# Altium schematic symbol library kmilo17pet-LT_OpAmp_LT2000.SchLib: 1710 symbols (part 50 of 75)
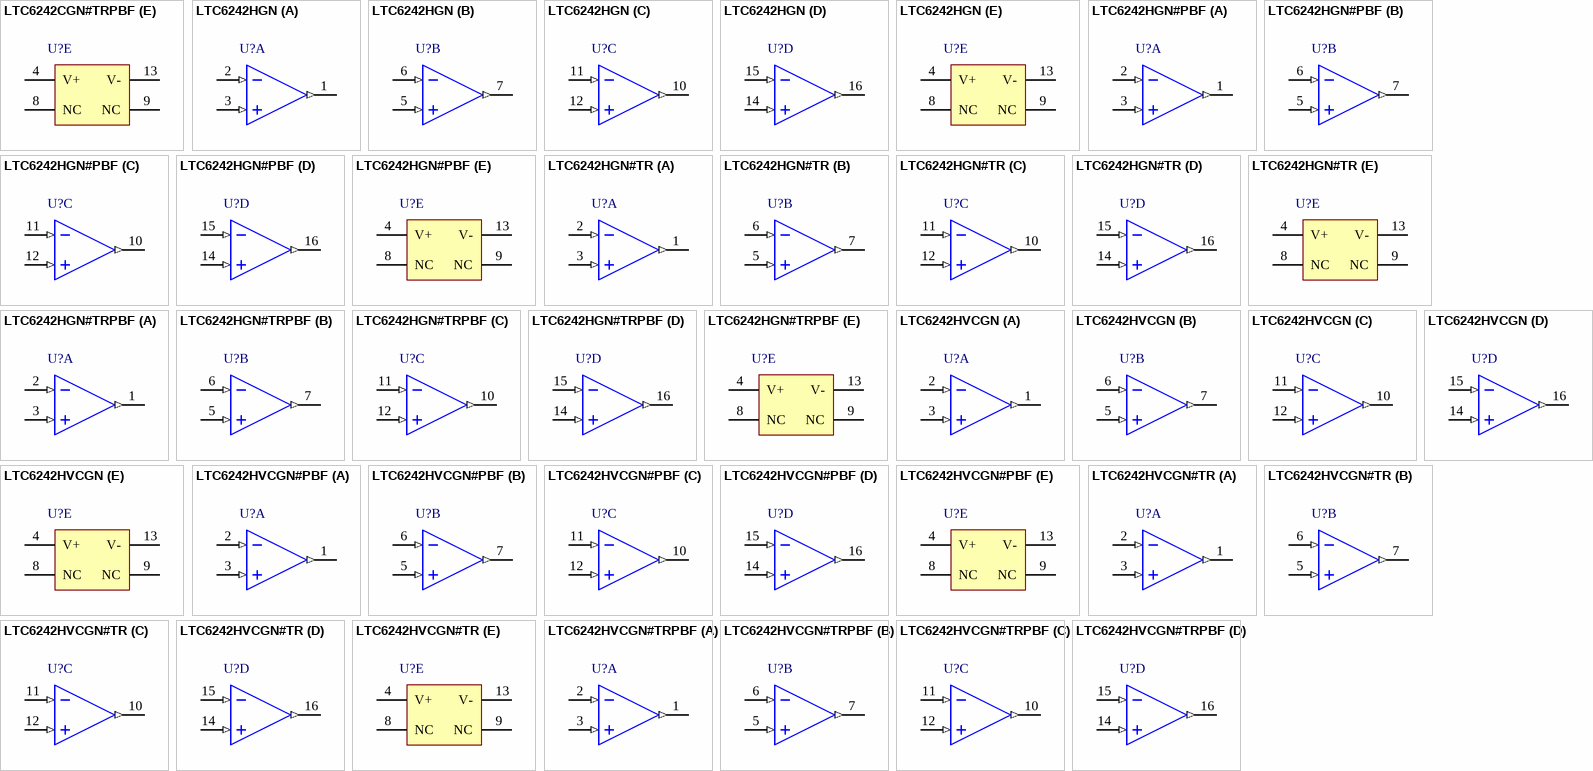
[diagram p129: symbols LTC6242CGN#TRPBF to LTC6242HVCGN#TRPBF]

## LTC6242HVCGN
designator U?
Quad Channel, Low Noise, CMOS Operational Amplifier, RRO, 18 MHz Typical GBW, 10 V/us Typical SR, 2.8 to 12 V, 16-Pin SOP (GN-16), Commercial; Linear Technology Part Number: LTC6242HV; Manufacturer: Linear Technology; PartNumber: LTC6242HVCGN; Channels (#): 4; GBW (MHz) Typical: 18; Is (mA) Typical: 1.8; SR (V/us) Typical: 10; Vos (mV) Typical: 0.04; Vs Max (V): 12; Vs Min (V): 2.8; DatasheetVersion: Rev. E; PackageVersion: Rev B; PackageReference: LT-GN-16; PackageDescription: 16-Lead Plastic SSOP, Body 4.9 x 3.9 mm, Pitch 0.635 mm; Type: VFB; Mounting Technology: Surface Mount; ComponentLink1Description: Manufacturer URL; ComponentLink1URL: http://www.linear.com/; ComponentLink2Description: Datasheet; ComponentLink2URL: http://cds.linear.com/docs/en/datasheet/624012fe.pdf; ComponentLink3Description: Package Specification; ComponentLink3URL: http://cds.linear.com/docs/en/packaging/05081641_B_GN16.pdf
footprint LT-GN-16_N (SOP, 16-Leads, Body 4.9x3.9mm, Pitch 0.635mm, IPC Medium Density)
footprint LT-GN-16_L (SOP, 16-Leads, Body 4.9x3.9mm, Pitch 0.635mm, IPC High Density)
footprint LT-GN-16_M (SOP, 16-Leads, Body 4.9x3.9mm, Pitch 0.635mm, IPC Low Density)
part A pins: 1 OUT A (out), 2 -IN A (in), 3 +IN A (in)
part B pins: 5 +IN B (in), 6 -IN B (in), 7 OUT B (out)
part C pins: 10 OUT C (out), 11 -IN C (in), 12 +IN C (in)
part D pins: 14 +IN D (in), 15 -IN D (in), 16 OUT D (out)
part E pins: 4 V+ (power), 8 NC, 9 NC, 13 V- (power)

## LTC6242HVCGN#PBF
designator U?
Quad Channel, Low Noise, CMOS Operational Amplifier, RRO, 18 MHz Typical GBW, 10 V/us Typical SR, 2.8 to 12 V, 16-Pin SOP (GN-16), Commercial, Pb-Free; Linear Technology Part Number: LTC6242HV; Manufacturer: Linear Technology; PartNumber: LTC6242HVCGN#PBF; Channels (#): 4; GBW (MHz) Typical: 18; Is (mA) Typical: 1.8; SR (V/us) Typical: 10; Vos (mV) Typical: 0.04; Vs Max (V): 12; Vs Min (V): 2.8; DatasheetVersion: Rev. E; PackageVersion: Rev B; PackageReference: LT-GN-16; PackageDescription: 16-Lead Plastic SSOP, Body 4.9 x 3.9 mm, Pitch 0.635 mm; Supplier 1: Digi-Key; Supplier Part Number 1: LTC6242HVCGN#PBF-ND; Supplier 2: Farnell; Supplier Part Number 2: 1462132; RoHS: Pb-Free; Type: VFB; Mounting Technology: Surface Mount; ComponentLink1Description: Manufacturer URL; ComponentLink1URL: http://www.linear.com/; ComponentLink2Description: Datasheet; ComponentLink2URL: http://cds.linear.com/docs/en/datasheet/624012fe.pdf; ComponentLink3Description: Package Specification; ComponentLink3URL: http://cds.linear.com/docs/en/packaging/05081641_B_GN16.pdf
footprint LT-GN-16_N (SOP, 16-Leads, Body 4.9x3.9mm, Pitch 0.635mm, IPC Medium Density)
footprint LT-GN-16_L (SOP, 16-Leads, Body 4.9x3.9mm, Pitch 0.635mm, IPC High Density)
footprint LT-GN-16_M (SOP, 16-Leads, Body 4.9x3.9mm, Pitch 0.635mm, IPC Low Density)
part A pins: 1 OUT A (out), 2 -IN A (in), 3 +IN A (in)
part B pins: 5 +IN B (in), 6 -IN B (in), 7 OUT B (out)
part C pins: 10 OUT C (out), 11 -IN C (in), 12 +IN C (in)
part D pins: 14 +IN D (in), 15 -IN D (in), 16 OUT D (out)
part E pins: 4 V+ (power), 8 NC, 9 NC, 13 V- (power)

## LTC6242HVCGN#TR
designator U?
Quad Channel, Low Noise, CMOS Operational Amplifier, RRO, 18 MHz Typical GBW, 10 V/us Typical SR, 2.8 to 12 V, 16-Pin SOP (GN-16), Commercial, Reel; Linear Technology Part Number: LTC6242HV; Manufacturer: Linear Technology; PartNumber: LTC6242HVCGN#TR; Channels (#): 4; GBW (MHz) Typical: 18; Is (mA) Typical: 1.8; SR (V/us) Typical: 10; Vos (mV) Typical: 0.04; Vs Max (V): 12; Vs Min (V): 2.8; DatasheetVersion: Rev. E; PackageVersion: Rev B; PackageReference: LT-GN-16; PackageDescription: 16-Lead Plastic SSOP, Body 4.9 x 3.9 mm, Pitch 0.635 mm; Packing: Reel; Type: VFB; Mounting Technology: Surface Mount; ComponentLink1Description: Manufacturer URL; ComponentLink1URL: http://www.linear.com/; ComponentLink2Description: Datasheet; ComponentLink2URL: http://cds.linear.com/docs/en/datasheet/624012fe.pdf; ComponentLink3Description: Package Specification; ComponentLink3URL: http://cds.linear.com/docs/en/packaging/05081641_B_GN16.pdf
footprint LT-GN-16_N (SOP, 16-Leads, Body 4.9x3.9mm, Pitch 0.635mm, IPC Medium Density)
footprint LT-GN-16_L (SOP, 16-Leads, Body 4.9x3.9mm, Pitch 0.635mm, IPC High Density)
footprint LT-GN-16_M (SOP, 16-Leads, Body 4.9x3.9mm, Pitch 0.635mm, IPC Low Density)
part A pins: 1 OUT A (out), 2 -IN A (in), 3 +IN A (in)
part B pins: 5 +IN B (in), 6 -IN B (in), 7 OUT B (out)
part C pins: 10 OUT C (out), 11 -IN C (in), 12 +IN C (in)
part D pins: 14 +IN D (in), 15 -IN D (in), 16 OUT D (out)
part E pins: 4 V+ (power), 8 NC, 9 NC, 13 V- (power)

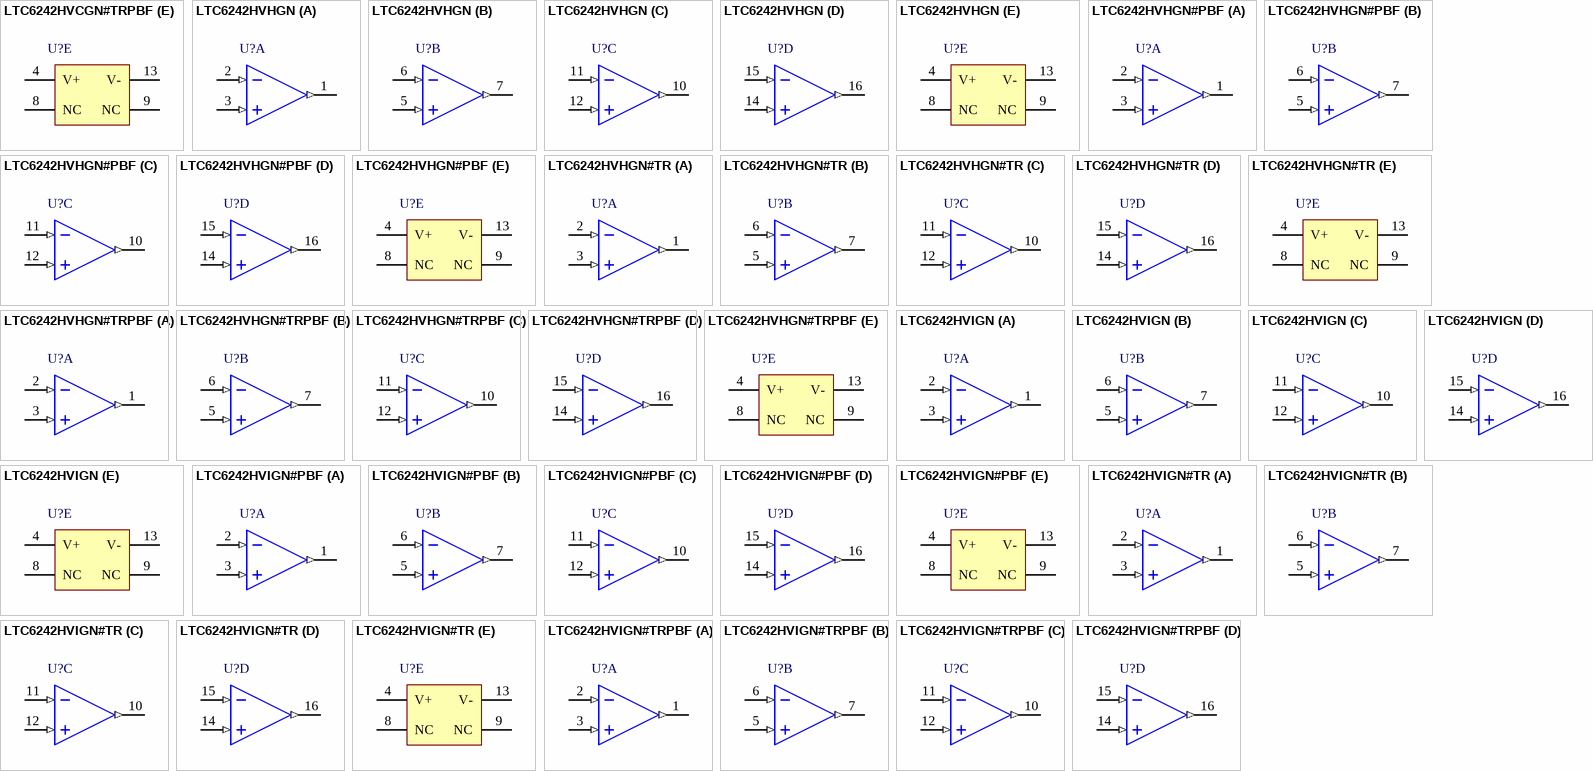
[diagram p65: symbols LTC6242HVCGN#TRPBF to LTC6242HVIGN#TRPBF]

## LTC6242HVCGN#TRPBF
designator U?
Quad Channel, Low Noise, CMOS Operational Amplifier, RRO, 18 MHz Typical GBW, 10 V/us Typical SR, 2.8 to 12 V, 16-Pin SOP (GN-16), Commercial, Pb-Free, Reel; Linear Technology Part Number: LTC6242HV; Manufacturer: Linear Technology; PartNumber: LTC6242HVCGN#TRPBF; Channels (#): 4; GBW (MHz) Typical: 18; Is (mA) Typical: 1.8; SR (V/us) Typical: 10; Vos (mV) Typical: 0.04; Vs Max (V): 12; Vs Min (V): 2.8; DatasheetVersion: Rev. E; PackageVersion: Rev B; PackageReference: LT-GN-16; PackageDescription: 16-Lead Plastic SSOP, Body 4.9 x 3.9 mm, Pitch 0.635 mm; Supplier 1: Digi-Key; Supplier Part Number 1: LTC6242HVCGN#TRPBF-ND; Packing: Reel; RoHS: Pb-Free; Type: VFB; Mounting Technology: Surface Mount; ComponentLink1Description: Manufacturer URL; ComponentLink1URL: http://www.linear.com/; ComponentLink2Description: Datasheet; ComponentLink2URL: http://cds.linear.com/docs/en/datasheet/624012fe.pdf; ComponentLink3Description: Package Specification; ComponentLink3URL: http://cds.linear.com/docs/en/packaging/05081641_B_GN16.pdf
footprint LT-GN-16_N (SOP, 16-Leads, Body 4.9x3.9mm, Pitch 0.635mm, IPC Medium Density)
footprint LT-GN-16_L (SOP, 16-Leads, Body 4.9x3.9mm, Pitch 0.635mm, IPC High Density)
footprint LT-GN-16_M (SOP, 16-Leads, Body 4.9x3.9mm, Pitch 0.635mm, IPC Low Density)
part A pins: 1 OUT A (out), 2 -IN A (in), 3 +IN A (in)
part B pins: 5 +IN B (in), 6 -IN B (in), 7 OUT B (out)
part C pins: 10 OUT C (out), 11 -IN C (in), 12 +IN C (in)
part D pins: 14 +IN D (in), 15 -IN D (in), 16 OUT D (out)
part E pins: 4 V+ (power), 8 NC, 9 NC, 13 V- (power)

## LTC6242HVHGN
designator U?
Quad Channel, Low Noise, CMOS Operational Amplifier, RRO, 18 MHz Typical GBW, 10 V/us Typical SR, 2.8 to 12 V, 16-Pin SOP (GN-16), High Temperature / Automotive; Linear Technology Part Number: LTC6242HV; Manufacturer: Linear Technology; PartNumber: LTC6242HVHGN; Channels (#): 4; GBW (MHz) Typical: 18; Is (mA) Typical: 1.8; SR (V/us) Typical: 10; Vos (mV) Typical: 0.04; Vs Max (V): 12; Vs Min (V): 2.8; DatasheetVersion: Rev. E; PackageVersion: Rev B; PackageReference: LT-GN-16; PackageDescription: 16-Lead Plastic SSOP, Body 4.9 x 3.9 mm, Pitch 0.635 mm; Type: VFB; Mounting Technology: Surface Mount; ComponentLink1Description: Manufacturer URL; ComponentLink1URL: http://www.linear.com/; ComponentLink2Description: Datasheet; ComponentLink2URL: http://cds.linear.com/docs/en/datasheet/624012fe.pdf; ComponentLink3Description: Package Specification; ComponentLink3URL: http://cds.linear.com/docs/en/packaging/05081641_B_GN16.pdf
footprint LT-GN-16_N (SOP, 16-Leads, Body 4.9x3.9mm, Pitch 0.635mm, IPC Medium Density)
footprint LT-GN-16_L (SOP, 16-Leads, Body 4.9x3.9mm, Pitch 0.635mm, IPC High Density)
footprint LT-GN-16_M (SOP, 16-Leads, Body 4.9x3.9mm, Pitch 0.635mm, IPC Low Density)
part A pins: 1 OUT A (out), 2 -IN A (in), 3 +IN A (in)
part B pins: 5 +IN B (in), 6 -IN B (in), 7 OUT B (out)
part C pins: 10 OUT C (out), 11 -IN C (in), 12 +IN C (in)
part D pins: 14 +IN D (in), 15 -IN D (in), 16 OUT D (out)
part E pins: 4 V+ (power), 8 NC, 9 NC, 13 V- (power)

## LTC6242HVHGN#PBF
designator U?
Quad Channel, Low Noise, CMOS Operational Amplifier, RRO, 18 MHz Typical GBW, 10 V/us Typical SR, 2.8 to 12 V, 16-Pin SOP (GN-16), High Temperature / Automotive, Pb-Free; Linear Technology Part Number: LTC6242HV; Manufacturer: Linear Technology; PartNumber: LTC6242HVHGN#PBF; Channels (#): 4; GBW (MHz) Typical: 18; Is (mA) Typical: 1.8; SR (V/us) Typical: 10; Vos (mV) Typical: 0.04; Vs Max (V): 12; Vs Min (V): 2.8; DatasheetVersion: Rev. E; PackageVersion: Rev B; PackageReference: LT-GN-16; PackageDescription: 16-Lead Plastic SSOP, Body 4.9 x 3.9 mm, Pitch 0.635 mm; Supplier 1: Digi-Key; Supplier Part Number 1: LTC6242HVHGN#PBF-ND; RoHS: Pb-Free; Type: VFB; Mounting Technology: Surface Mount; ComponentLink1Description: Manufacturer URL; ComponentLink1URL: http://www.linear.com/; ComponentLink2Description: Datasheet; ComponentLink2URL: http://cds.linear.com/docs/en/datasheet/624012fe.pdf; ComponentLink3Description: Package Specification; ComponentLink3URL: http://cds.linear.com/docs/en/packaging/05081641_B_GN16.pdf
footprint LT-GN-16_N (SOP, 16-Leads, Body 4.9x3.9mm, Pitch 0.635mm, IPC Medium Density)
footprint LT-GN-16_L (SOP, 16-Leads, Body 4.9x3.9mm, Pitch 0.635mm, IPC High Density)
footprint LT-GN-16_M (SOP, 16-Leads, Body 4.9x3.9mm, Pitch 0.635mm, IPC Low Density)
part A pins: 1 OUT A (out), 2 -IN A (in), 3 +IN A (in)
part B pins: 5 +IN B (in), 6 -IN B (in), 7 OUT B (out)
part C pins: 10 OUT C (out), 11 -IN C (in), 12 +IN C (in)
part D pins: 14 +IN D (in), 15 -IN D (in), 16 OUT D (out)
part E pins: 4 V+ (power), 8 NC, 9 NC, 13 V- (power)

## LTC6242HVHGN#TR
designator U?
Quad Channel, Low Noise, CMOS Operational Amplifier, RRO, 18 MHz Typical GBW, 10 V/us Typical SR, 2.8 to 12 V, 16-Pin SOP (GN-16), High Temperature / Automotive, Reel; Linear Technology Part Number: LTC6242HV; Manufacturer: Linear Technology; PartNumber: LTC6242HVHGN#TR; Channels (#): 4; GBW (MHz) Typical: 18; Is (mA) Typical: 1.8; SR (V/us) Typical: 10; Vos (mV) Typical: 0.04; Vs Max (V): 12; Vs Min (V): 2.8; DatasheetVersion: Rev. E; PackageVersion: Rev B; PackageReference: LT-GN-16; PackageDescription: 16-Lead Plastic SSOP, Body 4.9 x 3.9 mm, Pitch 0.635 mm; Packing: Reel; Type: VFB; Mounting Technology: Surface Mount; ComponentLink1Description: Manufacturer URL; ComponentLink1URL: http://www.linear.com/; ComponentLink2Description: Datasheet; ComponentLink2URL: http://cds.linear.com/docs/en/datasheet/624012fe.pdf; ComponentLink3Description: Package Specification; ComponentLink3URL: http://cds.linear.com/docs/en/packaging/05081641_B_GN16.pdf
footprint LT-GN-16_N (SOP, 16-Leads, Body 4.9x3.9mm, Pitch 0.635mm, IPC Medium Density)
footprint LT-GN-16_L (SOP, 16-Leads, Body 4.9x3.9mm, Pitch 0.635mm, IPC High Density)
footprint LT-GN-16_M (SOP, 16-Leads, Body 4.9x3.9mm, Pitch 0.635mm, IPC Low Density)
part A pins: 1 OUT A (out), 2 -IN A (in), 3 +IN A (in)
part B pins: 5 +IN B (in), 6 -IN B (in), 7 OUT B (out)
part C pins: 10 OUT C (out), 11 -IN C (in), 12 +IN C (in)
part D pins: 14 +IN D (in), 15 -IN D (in), 16 OUT D (out)
part E pins: 4 V+ (power), 8 NC, 9 NC, 13 V- (power)

## LTC6242HVHGN#TRPBF
designator U?
Quad Channel, Low Noise, CMOS Operational Amplifier, RRO, 18 MHz Typical GBW, 10 V/us Typical SR, 2.8 to 12 V, 16-Pin SOP (GN-16), High Temperature / Automotive, Pb-Free, Reel; Linear Technology Part Number: LTC6242HV; Manufacturer: Linear Technology; PartNumber: LTC6242HVHGN#TRPBF; Channels (#): 4; GBW (MHz) Typical: 18; Is (mA) Typical: 1.8; SR (V/us) Typical: 10; Vos (mV) Typical: 0.04; Vs Max (V): 12; Vs Min (V): 2.8; DatasheetVersion: Rev. E; PackageVersion: Rev B; PackageReference: LT-GN-16; PackageDescription: 16-Lead Plastic SSOP, Body 4.9 x 3.9 mm, Pitch 0.635 mm; Supplier 1: Digi-Key; Supplier Part Number 1: LTC6242HVHGN#TRPBF-ND; Packing: Reel; RoHS: Pb-Free; Type: VFB; Mounting Technology: Surface Mount; ComponentLink1Description: Manufacturer URL; ComponentLink1URL: http://www.linear.com/; ComponentLink2Description: Datasheet; ComponentLink2URL: http://cds.linear.com/docs/en/datasheet/624012fe.pdf; ComponentLink3Description: Package Specification; ComponentLink3URL: http://cds.linear.com/docs/en/packaging/05081641_B_GN16.pdf
footprint LT-GN-16_N (SOP, 16-Leads, Body 4.9x3.9mm, Pitch 0.635mm, IPC Medium Density)
footprint LT-GN-16_L (SOP, 16-Leads, Body 4.9x3.9mm, Pitch 0.635mm, IPC High Density)
footprint LT-GN-16_M (SOP, 16-Leads, Body 4.9x3.9mm, Pitch 0.635mm, IPC Low Density)
part A pins: 1 OUT A (out), 2 -IN A (in), 3 +IN A (in)
part B pins: 5 +IN B (in), 6 -IN B (in), 7 OUT B (out)
part C pins: 10 OUT C (out), 11 -IN C (in), 12 +IN C (in)
part D pins: 14 +IN D (in), 15 -IN D (in), 16 OUT D (out)
part E pins: 4 V+ (power), 8 NC, 9 NC, 13 V- (power)

## LTC6242HVIGN
designator U?
Quad Channel, Low Noise, CMOS Operational Amplifier, RRO, 18 MHz Typical GBW, 10 V/us Typical SR, 2.8 to 12 V, 16-Pin SOP (GN-16), Industrial; Linear Technology Part Number: LTC6242HV; Manufacturer: Linear Technology; PartNumber: LTC6242HVIGN; Channels (#): 4; GBW (MHz) Typical: 18; Is (mA) Typical: 1.8; SR (V/us) Typical: 10; Vos (mV) Typical: 0.04; Vs Max (V): 12; Vs Min (V): 2.8; DatasheetVersion: Rev. E; PackageVersion: Rev B; PackageReference: LT-GN-16; PackageDescription: 16-Lead Plastic SSOP, Body 4.9 x 3.9 mm, Pitch 0.635 mm; Type: VFB; Mounting Technology: Surface Mount; ComponentLink1Description: Manufacturer URL; ComponentLink1URL: http://www.linear.com/; ComponentLink2Description: Datasheet; ComponentLink2URL: http://cds.linear.com/docs/en/datasheet/624012fe.pdf; ComponentLink3Description: Package Specification; ComponentLink3URL: http://cds.linear.com/docs/en/packaging/05081641_B_GN16.pdf
footprint LT-GN-16_N (SOP, 16-Leads, Body 4.9x3.9mm, Pitch 0.635mm, IPC Medium Density)
footprint LT-GN-16_L (SOP, 16-Leads, Body 4.9x3.9mm, Pitch 0.635mm, IPC High Density)
footprint LT-GN-16_M (SOP, 16-Leads, Body 4.9x3.9mm, Pitch 0.635mm, IPC Low Density)
part A pins: 1 OUT A (out), 2 -IN A (in), 3 +IN A (in)
part B pins: 5 +IN B (in), 6 -IN B (in), 7 OUT B (out)
part C pins: 10 OUT C (out), 11 -IN C (in), 12 +IN C (in)
part D pins: 14 +IN D (in), 15 -IN D (in), 16 OUT D (out)
part E pins: 4 V+ (power), 8 NC, 9 NC, 13 V- (power)

## LTC6242HVIGN#PBF
designator U?
Quad Channel, Low Noise, CMOS Operational Amplifier, RRO, 18 MHz Typical GBW, 10 V/us Typical SR, 2.8 to 12 V, 16-Pin SOP (GN-16), Industrial, Pb-Free; Linear Technology Part Number: LTC6242HV; Manufacturer: Linear Technology; PartNumber: LTC6242HVIGN#PBF; Channels (#): 4; GBW (MHz) Typical: 18; Is (mA) Typical: 1.8; SR (V/us) Typical: 10; Vos (mV) Typical: 0.04; Vs Max (V): 12; Vs Min (V): 2.8; DatasheetVersion: Rev. E; PackageVersion: Rev B; PackageReference: LT-GN-16; PackageDescription: 16-Lead Plastic SSOP, Body 4.9 x 3.9 mm, Pitch 0.635 mm; Supplier 1: Digi-Key; Supplier Part Number 1: LTC6242HVIGN#PBF-ND; RoHS: Pb-Free; Type: VFB; Mounting Technology: Surface Mount; ComponentLink1Description: Manufacturer URL; ComponentLink1URL: http://www.linear.com/; ComponentLink2Description: Datasheet; ComponentLink2URL: http://cds.linear.com/docs/en/datasheet/624012fe.pdf; ComponentLink3Description: Package Specification; ComponentLink3URL: http://cds.linear.com/docs/en/packaging/05081641_B_GN16.pdf
footprint LT-GN-16_N (SOP, 16-Leads, Body 4.9x3.9mm, Pitch 0.635mm, IPC Medium Density)
footprint LT-GN-16_L (SOP, 16-Leads, Body 4.9x3.9mm, Pitch 0.635mm, IPC High Density)
footprint LT-GN-16_M (SOP, 16-Leads, Body 4.9x3.9mm, Pitch 0.635mm, IPC Low Density)
part A pins: 1 OUT A (out), 2 -IN A (in), 3 +IN A (in)
part B pins: 5 +IN B (in), 6 -IN B (in), 7 OUT B (out)
part C pins: 10 OUT C (out), 11 -IN C (in), 12 +IN C (in)
part D pins: 14 +IN D (in), 15 -IN D (in), 16 OUT D (out)
part E pins: 4 V+ (power), 8 NC, 9 NC, 13 V- (power)

## LTC6242HVIGN#TR
designator U?
Quad Channel, Low Noise, CMOS Operational Amplifier, RRO, 18 MHz Typical GBW, 10 V/us Typical SR, 2.8 to 12 V, 16-Pin SOP (GN-16), Industrial, Reel; Linear Technology Part Number: LTC6242HV; Manufacturer: Linear Technology; PartNumber: LTC6242HVIGN#TR; Channels (#): 4; GBW (MHz) Typical: 18; Is (mA) Typical: 1.8; SR (V/us) Typical: 10; Vos (mV) Typical: 0.04; Vs Max (V): 12; Vs Min (V): 2.8; DatasheetVersion: Rev. E; PackageVersion: Rev B; PackageReference: LT-GN-16; PackageDescription: 16-Lead Plastic SSOP, Body 4.9 x 3.9 mm, Pitch 0.635 mm; Packing: Reel; Type: VFB; Mounting Technology: Surface Mount; ComponentLink1Description: Manufacturer URL; ComponentLink1URL: http://www.linear.com/; ComponentLink2Description: Datasheet; ComponentLink2URL: http://cds.linear.com/docs/en/datasheet/624012fe.pdf; ComponentLink3Description: Package Specification; ComponentLink3URL: http://cds.linear.com/docs/en/packaging/05081641_B_GN16.pdf
footprint LT-GN-16_N (SOP, 16-Leads, Body 4.9x3.9mm, Pitch 0.635mm, IPC Medium Density)
footprint LT-GN-16_L (SOP, 16-Leads, Body 4.9x3.9mm, Pitch 0.635mm, IPC High Density)
footprint LT-GN-16_M (SOP, 16-Leads, Body 4.9x3.9mm, Pitch 0.635mm, IPC Low Density)
part A pins: 1 OUT A (out), 2 -IN A (in), 3 +IN A (in)
part B pins: 5 +IN B (in), 6 -IN B (in), 7 OUT B (out)
part C pins: 10 OUT C (out), 11 -IN C (in), 12 +IN C (in)
part D pins: 14 +IN D (in), 15 -IN D (in), 16 OUT D (out)
part E pins: 4 V+ (power), 8 NC, 9 NC, 13 V- (power)

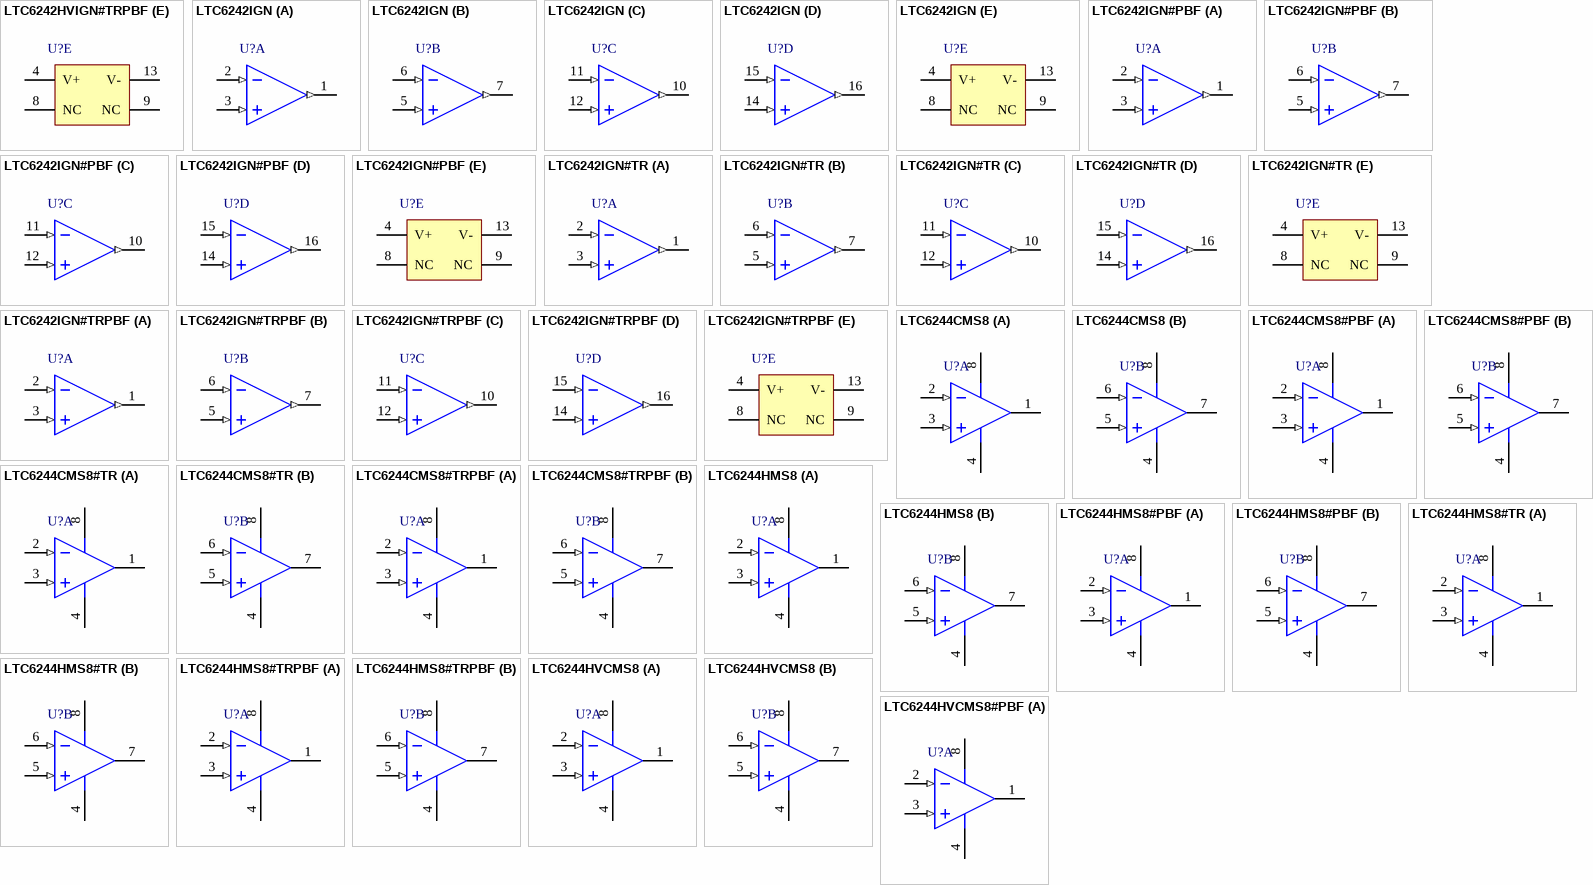
[diagram p66: symbols LTC6242HVIGN#TRPBF to LTC6244HVCMS8#PBF]

## LTC6242HVIGN#TRPBF
designator U?
Quad Channel, Low Noise, CMOS Operational Amplifier, RRO, 18 MHz Typical GBW, 10 V/us Typical SR, 2.8 to 12 V, 16-Pin SOP (GN-16), Industrial, Pb-Free, Reel; Linear Technology Part Number: LTC6242HV; Manufacturer: Linear Technology; PartNumber: LTC6242HVIGN#TRPBF; Channels (#): 4; GBW (MHz) Typical: 18; Is (mA) Typical: 1.8; SR (V/us) Typical: 10; Vos (mV) Typical: 0.04; Vs Max (V): 12; Vs Min (V): 2.8; DatasheetVersion: Rev. E; PackageVersion: Rev B; PackageReference: LT-GN-16; PackageDescription: 16-Lead Plastic SSOP, Body 4.9 x 3.9 mm, Pitch 0.635 mm; Supplier 1: Digi-Key; Supplier Part Number 1: LTC6242HVIGN#TRPBF-ND; Packing: Reel; RoHS: Pb-Free; Type: VFB; Mounting Technology: Surface Mount; ComponentLink1Description: Manufacturer URL; ComponentLink1URL: http://www.linear.com/; ComponentLink2Description: Datasheet; ComponentLink2URL: http://cds.linear.com/docs/en/datasheet/624012fe.pdf; ComponentLink3Description: Package Specification; ComponentLink3URL: http://cds.linear.com/docs/en/packaging/05081641_B_GN16.pdf
footprint LT-GN-16_N (SOP, 16-Leads, Body 4.9x3.9mm, Pitch 0.635mm, IPC Medium Density)
footprint LT-GN-16_L (SOP, 16-Leads, Body 4.9x3.9mm, Pitch 0.635mm, IPC High Density)
footprint LT-GN-16_M (SOP, 16-Leads, Body 4.9x3.9mm, Pitch 0.635mm, IPC Low Density)
part A pins: 1 OUT A (out), 2 -IN A (in), 3 +IN A (in)
part B pins: 5 +IN B (in), 6 -IN B (in), 7 OUT B (out)
part C pins: 10 OUT C (out), 11 -IN C (in), 12 +IN C (in)
part D pins: 14 +IN D (in), 15 -IN D (in), 16 OUT D (out)
part E pins: 4 V+ (power), 8 NC, 9 NC, 13 V- (power)

## LTC6242IGN
designator U?
Quad Channel, Low Noise, CMOS Operational Amplifier, RRO, 18 MHz Typical GBW, 10 V/us Typical SR, 2.8 to 6 V, 16-Pin SOP (GN-16), Industrial; Linear Technology Part Number: LTC6242; Manufacturer: Linear Technology; PartNumber: LTC6242IGN; Channels (#): 4; GBW (MHz) Typical: 18; Is (mA) Typical: 1.8; SR (V/us) Typical: 10; Vos (mV) Typical: 0.04; Vs Max (V): 6; Vs Min (V): 2.8; DatasheetVersion: Rev. E; PackageVersion: Rev B; PackageReference: LT-GN-16; PackageDescription: 16-Lead Plastic SSOP, Body 4.9 x 3.9 mm, Pitch 0.635 mm; Type: VFB; Mounting Technology: Surface Mount; ComponentLink1Description: Manufacturer URL; ComponentLink1URL: http://www.linear.com/; ComponentLink2Description: Datasheet; ComponentLink2URL: http://cds.linear.com/docs/en/datasheet/624012fe.pdf; ComponentLink3Description: Package Specification; ComponentLink3URL: http://cds.linear.com/docs/en/packaging/05081641_B_GN16.pdf
footprint LT-GN-16_N (SOP, 16-Leads, Body 4.9x3.9mm, Pitch 0.635mm, IPC Medium Density)
footprint LT-GN-16_L (SOP, 16-Leads, Body 4.9x3.9mm, Pitch 0.635mm, IPC High Density)
footprint LT-GN-16_M (SOP, 16-Leads, Body 4.9x3.9mm, Pitch 0.635mm, IPC Low Density)
part A pins: 1 OUT A (out), 2 -N A (in), 3 +IN A (in)
part B pins: 5 +IN B (in), 6 -IN B (in), 7 OUT B (out)
part C pins: 10 OUT C (out), 11 -IN C (in), 12 +IN C (in)
part D pins: 14 +IN D (in), 15 -IN D (in), 16 OUT D (out)
part E pins: 4 V+ (power), 8 NC, 9 NC, 13 V- (power)

## LTC6242IGN#PBF
designator U?
Quad Channel, Low Noise, CMOS Operational Amplifier, RRO, 18 MHz Typical GBW, 10 V/us Typical SR, 2.8 to 6 V, 16-Pin SOP (GN-16), Industrial, Pb-Free; Linear Technology Part Number: LTC6242; Manufacturer: Linear Technology; PartNumber: LTC6242IGN#PBF; Channels (#): 4; GBW (MHz) Typical: 18; Is (mA) Typical: 1.8; SR (V/us) Typical: 10; Vos (mV) Typical: 0.04; Vs Max (V): 6; Vs Min (V): 2.8; DatasheetVersion: Rev. E; PackageVersion: Rev B; PackageReference: LT-GN-16; PackageDescription: 16-Lead Plastic SSOP, Body 4.9 x 3.9 mm, Pitch 0.635 mm; Supplier 1: Digi-Key; Supplier Part Number 1: LTC6242IGN#PBF-ND; Supplier 2: Farnell; Supplier Part Number 2: 2294750; Supplier 3: Newark; Supplier Part Number 3: 57M0062; RoHS: Pb-Free; Type: VFB; Mounting Technology: Surface Mount; ComponentLink1Description: Manufacturer URL; ComponentLink1URL: http://www.linear.com/; ComponentLink2Description: Datasheet; ComponentLink2URL: http://cds.linear.com/docs/en/datasheet/624012fe.pdf; ComponentLink3Description: Package Specification; ComponentLink3URL: http://cds.linear.com/docs/en/packaging/05081641_B_GN16.pdf
footprint LT-GN-16_N (SOP, 16-Leads, Body 4.9x3.9mm, Pitch 0.635mm, IPC Medium Density)
footprint LT-GN-16_L (SOP, 16-Leads, Body 4.9x3.9mm, Pitch 0.635mm, IPC High Density)
footprint LT-GN-16_M (SOP, 16-Leads, Body 4.9x3.9mm, Pitch 0.635mm, IPC Low Density)
part A pins: 1 OUT A (out), 2 -N A (in), 3 +IN A (in)
part B pins: 5 +IN B (in), 6 -IN B (in), 7 OUT B (out)
part C pins: 10 OUT C (out), 11 -IN C (in), 12 +IN C (in)
part D pins: 14 +IN D (in), 15 -IN D (in), 16 OUT D (out)
part E pins: 4 V+ (power), 8 NC, 9 NC, 13 V- (power)

## LTC6242IGN#TR
designator U?
Quad Channel, Low Noise, CMOS Operational Amplifier, RRO, 18 MHz Typical GBW, 10 V/us Typical SR, 2.8 to 6 V, 16-Pin SOP (GN-16), Industrial, Reel; Linear Technology Part Number: LTC6242; Manufacturer: Linear Technology; PartNumber: LTC6242IGN#TR; Channels (#): 4; GBW (MHz) Typical: 18; Is (mA) Typical: 1.8; SR (V/us) Typical: 10; Vos (mV) Typical: 0.04; Vs Max (V): 6; Vs Min (V): 2.8; DatasheetVersion: Rev. E; PackageVersion: Rev B; PackageReference: LT-GN-16; PackageDescription: 16-Lead Plastic SSOP, Body 4.9 x 3.9 mm, Pitch 0.635 mm; Packing: Reel; Type: VFB; Mounting Technology: Surface Mount; ComponentLink1Description: Manufacturer URL; ComponentLink1URL: http://www.linear.com/; ComponentLink2Description: Datasheet; ComponentLink2URL: http://cds.linear.com/docs/en/datasheet/624012fe.pdf; ComponentLink3Description: Package Specification; ComponentLink3URL: http://cds.linear.com/docs/en/packaging/05081641_B_GN16.pdf
footprint LT-GN-16_N (SOP, 16-Leads, Body 4.9x3.9mm, Pitch 0.635mm, IPC Medium Density)
footprint LT-GN-16_L (SOP, 16-Leads, Body 4.9x3.9mm, Pitch 0.635mm, IPC High Density)
footprint LT-GN-16_M (SOP, 16-Leads, Body 4.9x3.9mm, Pitch 0.635mm, IPC Low Density)
part A pins: 1 OUT A (out), 2 -N A (in), 3 +IN A (in)
part B pins: 5 +IN B (in), 6 -IN B (in), 7 OUT B (out)
part C pins: 10 OUT C (out), 11 -IN C (in), 12 +IN C (in)
part D pins: 14 +IN D (in), 15 -IN D (in), 16 OUT D (out)
part E pins: 4 V+ (power), 8 NC, 9 NC, 13 V- (power)

## LTC6242IGN#TRPBF
designator U?
Quad Channel, Low Noise, CMOS Operational Amplifier, RRO, 18 MHz Typical GBW, 10 V/us Typical SR, 2.8 to 6 V, 16-Pin SOP (GN-16), Industrial, Pb-Free, Reel; Linear Technology Part Number: LTC6242; Manufacturer: Linear Technology; PartNumber: LTC6242IGN#TRPBF; Channels (#): 4; GBW (MHz) Typical: 18; Is (mA) Typical: 1.8; SR (V/us) Typical: 10; Vos (mV) Typical: 0.04; Vs Max (V): 6; Vs Min (V): 2.8; DatasheetVersion: Rev. E; PackageVersion: Rev B; PackageReference: LT-GN-16; PackageDescription: 16-Lead Plastic SSOP, Body 4.9 x 3.9 mm, Pitch 0.635 mm; Supplier 1: Digi-Key; Supplier Part Number 1: LTC6242IGN#TRPBF-ND; Packing: Reel; RoHS: Pb-Free; Type: VFB; Mounting Technology: Surface Mount; ComponentLink1Description: Manufacturer URL; ComponentLink1URL: http://www.linear.com/; ComponentLink2Description: Datasheet; ComponentLink2URL: http://cds.linear.com/docs/en/datasheet/624012fe.pdf; ComponentLink3Description: Package Specification; ComponentLink3URL: http://cds.linear.com/docs/en/packaging/05081641_B_GN16.pdf
footprint LT-GN-16_N (SOP, 16-Leads, Body 4.9x3.9mm, Pitch 0.635mm, IPC Medium Density)
footprint LT-GN-16_L (SOP, 16-Leads, Body 4.9x3.9mm, Pitch 0.635mm, IPC High Density)
footprint LT-GN-16_M (SOP, 16-Leads, Body 4.9x3.9mm, Pitch 0.635mm, IPC Low Density)
part A pins: 1 OUT A (out), 2 -N A (in), 3 +IN A (in)
part B pins: 5 +IN B (in), 6 -IN B (in), 7 OUT B (out)
part C pins: 10 OUT C (out), 11 -IN C (in), 12 +IN C (in)
part D pins: 14 +IN D (in), 15 -IN D (in), 16 OUT D (out)
part E pins: 4 V+ (power), 8 NC, 9 NC, 13 V- (power)

## LTC6244CMS8
designator U?
Dual Channel, Low Noise, CMOS Operational Amplifier, RRO, 50 MHz Typical GBW, 35 V/us Typical SR, 2.8 to 6 V, 8-Pin SOP (MS8-8), Commercial; Linear Technology Part Number: LTC6244; Manufacturer: Linear Technology; PartNumber: LTC6244CMS8; Channels (#): 2; GBW (MHz) Typical: 50; Is (mA) Typical: 6.25; SR (V/us) Typical: 35; Vos (mV) Typical: 0.04; Vs Max (V): 6; Vs Min (V): 2.8; DatasheetVersion: Rev. B; PackageVersion: Rev G; PackageReference: LT-MS8-8; PackageDescription: 8-Lead Plastic Small Outline, Body 3.9 x 4.9 mm, Pitch 1.27 mm; Type: VFB; Mounting Technology: Surface Mount; ComponentLink1Description: Manufacturer URL; ComponentLink1URL: http://www.linear.com/; ComponentLink2Description: Datasheet; ComponentLink2URL: http://cds.linear.com/docs/en/datasheet/6244fb.pdf; ComponentLink3Description: Package Specification; ComponentLink3URL: http://cds.linear.com/docs/en/packaging/05081610_G_SO8.pdf
footprint LT-MS8-8_N (SOP, 8-Leads, Body 3x3mm, Pitch 0.65mm, IPC Medium Density)
footprint LT-MS8-8_L (SOP, 8-Leads, Body 3x3mm, Pitch 0.65mm, IPC High Density)
footprint LT-MS8-8_M (SOP, 8-Leads, Body 3x3mm, Pitch 0.65mm, IPC Low Density)
pins on every part: 4 V- (power) "Positive Supply Voltage of Control Circuitry. This pin is not internally connected to other supply voltage pins and must be externally connected to supply voltage bus with proper bypassing for best performance, see Power (See Datasheet)", 8 V+  (power) "Positive Supply Voltage of Blue Channel Amplifi er. This pin is not internally connected to other supply voltage pins and must be externally connected to the supply voltage bus with proper bypassing for best performance, see (See Datasheet)"
part A pins: 1 OUT A (hiz), 2 IN- A (in), 3 IN+ A (in)
part B pins: 5 IN+ B (in), 6 IN- B (in), 7 OUT B (hiz)

## LTC6244CMS8#PBF
designator U?
Dual Channel, Low Noise, CMOS Operational Amplifier, RRO, 50 MHz Typical GBW, 35 V/us Typical SR, 2.8 to 6 V, 8-Pin SOP (MS8-8), Commercial, Pb-Free; Linear Technology Part Number: LTC6244; Manufacturer: Linear Technology; PartNumber: LTC6244CMS8#PBF; Channels (#): 2; GBW (MHz) Typical: 50; Is (mA) Typical: 6.25; SR (V/us) Typical: 35; Vos (mV) Typical: 0.04; Vs Max (V): 6; Vs Min (V): 2.8; DatasheetVersion: Rev. B; PackageVersion: Rev G; PackageReference: LT-MS8-8; PackageDescription: 8-Lead Plastic Small Outline, Body 3.9 x 4.9 mm, Pitch 1.27 mm; Supplier 1: Digi-Key; Supplier Part Number 1: LTC6244CMS8#PBF-ND; Supplier 2: Farnell; Supplier Part Number 2: 1627470; Supplier 3: Newark; Supplier Part Number 3: 57M0070; RoHS: Pb-Free; Type: VFB; Mounting Technology: Surface Mount; ComponentLink1Description: Manufacturer URL; ComponentLink1URL: http://www.linear.com/; ComponentLink2Description: Datasheet; ComponentLink2URL: http://cds.linear.com/docs/en/datasheet/6244fb.pdf; ComponentLink3Description: Package Specification; ComponentLink3URL: http://cds.linear.com/docs/en/packaging/05081610_G_SO8.pdf
footprint LT-MS8-8_N (SOP, 8-Leads, Body 3x3mm, Pitch 0.65mm, IPC Medium Density)
footprint LT-MS8-8_L (SOP, 8-Leads, Body 3x3mm, Pitch 0.65mm, IPC High Density)
footprint LT-MS8-8_M (SOP, 8-Leads, Body 3x3mm, Pitch 0.65mm, IPC Low Density)
pins on every part: 4 V- (power) "Positive Supply Voltage of Control Circuitry. This pin is not internally connected to other supply voltage pins and must be externally connected to supply voltage bus with proper bypassing for best performance, see Power (See Datasheet)", 8 V+  (power) "Positive Supply Voltage of Blue Channel Amplifi er. This pin is not internally connected to other supply voltage pins and must be externally connected to the supply voltage bus with proper bypassing for best performance, see (See Datasheet)"
part A pins: 1 OUT A (hiz), 2 IN- A (in), 3 IN+ A (in)
part B pins: 5 IN+ B (in), 6 IN- B (in), 7 OUT B (hiz)

## LTC6244CMS8#TR
designator U?
Dual Channel, Low Noise, CMOS Operational Amplifier, RRO, 50 MHz Typical GBW, 35 V/us Typical SR, 2.8 to 6 V, 8-Pin SOP (MS8-8), Commercial, Reel; Linear Technology Part Number: LTC6244; Manufacturer: Linear Technology; PartNumber: LTC6244CMS8#TR; Channels (#): 2; GBW (MHz) Typical: 50; Is (mA) Typical: 6.25; SR (V/us) Typical: 35; Vos (mV) Typical: 0.04; Vs Max (V): 6; Vs Min (V): 2.8; DatasheetVersion: Rev. B; PackageVersion: Rev G; PackageReference: LT-MS8-8; PackageDescription: 8-Lead Plastic Small Outline, Body 3.9 x 4.9 mm, Pitch 1.27 mm; Packing: Reel; Type: VFB; Mounting Technology: Surface Mount; ComponentLink1Description: Manufacturer URL; ComponentLink1URL: http://www.linear.com/; ComponentLink2Description: Datasheet; ComponentLink2URL: http://cds.linear.com/docs/en/datasheet/6244fb.pdf; ComponentLink3Description: Package Specification; ComponentLink3URL: http://cds.linear.com/docs/en/packaging/05081610_G_SO8.pdf
footprint LT-MS8-8_N (SOP, 8-Leads, Body 3x3mm, Pitch 0.65mm, IPC Medium Density)
footprint LT-MS8-8_L (SOP, 8-Leads, Body 3x3mm, Pitch 0.65mm, IPC High Density)
footprint LT-MS8-8_M (SOP, 8-Leads, Body 3x3mm, Pitch 0.65mm, IPC Low Density)
pins on every part: 4 V- (power) "Positive Supply Voltage of Control Circuitry. This pin is not internally connected to other supply voltage pins and must be externally connected to supply voltage bus with proper bypassing for best performance, see Power (See Datasheet)", 8 V+  (power) "Positive Supply Voltage of Blue Channel Amplifi er. This pin is not internally connected to other supply voltage pins and must be externally connected to the supply voltage bus with proper bypassing for best performance, see (See Datasheet)"
part A pins: 1 OUT A (hiz), 2 IN- A (in), 3 IN+ A (in)
part B pins: 5 IN+ B (in), 6 IN- B (in), 7 OUT B (hiz)

## LTC6244CMS8#TRPBF
designator U?
Dual Channel, Low Noise, CMOS Operational Amplifier, RRO, 50 MHz Typical GBW, 35 V/us Typical SR, 2.8 to 6 V, 8-Pin SOP (MS8-8), Commercial, Pb-Free, Reel; Linear Technology Part Number: LTC6244; Manufacturer: Linear Technology; PartNumber: LTC6244CMS8#TRPBF; Channels (#): 2; GBW (MHz) Typical: 50; Is (mA) Typical: 6.25; SR (V/us) Typical: 35; Vos (mV) Typical: 0.04; Vs Max (V): 6; Vs Min (V): 2.8; DatasheetVersion: Rev. B; PackageVersion: Rev G; PackageReference: LT-MS8-8; PackageDescription: 8-Lead Plastic Small Outline, Body 3.9 x 4.9 mm, Pitch 1.27 mm; Supplier 1: Digi-Key; Supplier Part Number 1: LTC6244CMS8#TRPBF-ND; Packing: Reel; RoHS: Pb-Free; Type: VFB; Mounting Technology: Surface Mount; ComponentLink1Description: Manufacturer URL; ComponentLink1URL: http://www.linear.com/; ComponentLink2Description: Datasheet; ComponentLink2URL: http://cds.linear.com/docs/en/datasheet/6244fb.pdf; ComponentLink3Description: Package Specification; ComponentLink3URL: http://cds.linear.com/docs/en/packaging/05081610_G_SO8.pdf
footprint LT-MS8-8_N (SOP, 8-Leads, Body 3x3mm, Pitch 0.65mm, IPC Medium Density)
footprint LT-MS8-8_L (SOP, 8-Leads, Body 3x3mm, Pitch 0.65mm, IPC High Density)
footprint LT-MS8-8_M (SOP, 8-Leads, Body 3x3mm, Pitch 0.65mm, IPC Low Density)
pins on every part: 4 V- (power) "Positive Supply Voltage of Control Circuitry. This pin is not internally connected to other supply voltage pins and must be externally connected to supply voltage bus with proper bypassing for best performance, see Power (See Datasheet)", 8 V+  (power) "Positive Supply Voltage of Blue Channel Amplifi er. This pin is not internally connected to other supply voltage pins and must be externally connected to the supply voltage bus with proper bypassing for best performance, see (See Datasheet)"
part A pins: 1 OUT A (hiz), 2 IN- A (in), 3 IN+ A (in)
part B pins: 5 IN+ B (in), 6 IN- B (in), 7 OUT B (hiz)

## LTC6244HMS8
designator U?
Dual Channel, Low Noise, CMOS Operational Amplifier, RRO, 50 MHz Typical GBW, 35 V/us Typical SR, 2.8 to 6 V, 8-Pin SOP (MS8-8), High Temperature / Automotive; Linear Technology Part Number: LTC6244; Manufacturer: Linear Technology; PartNumber: LTC6244HMS8; Channels (#): 2; GBW (MHz) Typical: 50; Is (mA) Typical: 6.25; SR (V/us) Typical: 35; Vos (mV) Typical: 0.04; Vs Max (V): 6; Vs Min (V): 2.8; DatasheetVersion: Rev. B; PackageVersion: Rev G; PackageReference: LT-MS8-8; PackageDescription: 8-Lead Plastic Small Outline, Body 3.9 x 4.9 mm, Pitch 1.27 mm; Supplier 1: Newark; Supplier Part Number 1: 57M0073; Type: VFB; Mounting Technology: Surface Mount; ComponentLink1Description: Manufacturer URL; ComponentLink1URL: http://www.linear.com/; ComponentLink2Description: Datasheet; ComponentLink2URL: http://cds.linear.com/docs/en/datasheet/6244fb.pdf; ComponentLink3Description: Package Specification; ComponentLink3URL: http://cds.linear.com/docs/en/packaging/05081610_G_SO8.pdf
footprint LT-MS8-8_N (SOP, 8-Leads, Body 3x3mm, Pitch 0.65mm, IPC Medium Density)
footprint LT-MS8-8_L (SOP, 8-Leads, Body 3x3mm, Pitch 0.65mm, IPC High Density)
footprint LT-MS8-8_M (SOP, 8-Leads, Body 3x3mm, Pitch 0.65mm, IPC Low Density)
pins on every part: 4 V- (power) "Positive Supply Voltage of Control Circuitry. This pin is not internally connected to other supply voltage pins and must be externally connected to supply voltage bus with proper bypassing for best performance, see Power (See Datasheet)", 8 V+  (power) "Positive Supply Voltage of Blue Channel Amplifi er. This pin is not internally connected to other supply voltage pins and must be externally connected to the supply voltage bus with proper bypassing for best performance, see (See Datasheet)"
part A pins: 1 OUT A (hiz), 2 IN- A (in), 3 IN+ A (in)
part B pins: 5 IN+ B (in), 6 IN- B (in), 7 OUT B (hiz)

## LTC6244HMS8#PBF
designator U?
Dual Channel, Low Noise, CMOS Operational Amplifier, RRO, 50 MHz Typical GBW, 35 V/us Typical SR, 2.8 to 6 V, 8-Pin SOP (MS8-8), High Temperature / Automotive, Pb-Free; Linear Technology Part Number: LTC6244; Manufacturer: Linear Technology; PartNumber: LTC6244HMS8#PBF; Channels (#): 2; GBW (MHz) Typical: 50; Is (mA) Typical: 6.25; SR (V/us) Typical: 35; Vos (mV) Typical: 0.04; Vs Max (V): 6; Vs Min (V): 2.8; DatasheetVersion: Rev. B; PackageVersion: Rev G; PackageReference: LT-MS8-8; PackageDescription: 8-Lead Plastic Small Outline, Body 3.9 x 4.9 mm, Pitch 1.27 mm; Supplier 1: Digi-Key; Supplier Part Number 1: LTC6244HMS8#PBF-ND; Supplier 2: Farnell; Supplier Part Number 2: 1715052; Supplier 3: Newark; Supplier Part Number 3: 57M0074; RoHS: Pb-Free; Type: VFB; Mounting Technology: Surface Mount; ComponentLink1Description: Manufacturer URL; ComponentLink1URL: http://www.linear.com/; ComponentLink2Description: Datasheet; ComponentLink2URL: http://cds.linear.com/docs/en/datasheet/6244fb.pdf; ComponentLink3Description: Package Specification; ComponentLink3URL: http://cds.linear.com/docs/en/packaging/05081610_G_SO8.pdf
footprint LT-MS8-8_N (SOP, 8-Leads, Body 3x3mm, Pitch 0.65mm, IPC Medium Density)
footprint LT-MS8-8_L (SOP, 8-Leads, Body 3x3mm, Pitch 0.65mm, IPC High Density)
footprint LT-MS8-8_M (SOP, 8-Leads, Body 3x3mm, Pitch 0.65mm, IPC Low Density)
pins on every part: 4 V- (power) "Positive Supply Voltage of Control Circuitry. This pin is not internally connected to other supply voltage pins and must be externally connected to supply voltage bus with proper bypassing for best performance, see Power (See Datasheet)", 8 V+  (power) "Positive Supply Voltage of Blue Channel Amplifi er. This pin is not internally connected to other supply voltage pins and must be externally connected to the supply voltage bus with proper bypassing for best performance, see (See Datasheet)"
part A pins: 1 OUT A (hiz), 2 IN- A (in), 3 IN+ A (in)
part B pins: 5 IN+ B (in), 6 IN- B (in), 7 OUT B (hiz)

## LTC6244HMS8#TR
designator U?
Dual Channel, Low Noise, CMOS Operational Amplifier, RRO, 50 MHz Typical GBW, 35 V/us Typical SR, 2.8 to 6 V, 8-Pin SOP (MS8-8), High Temperature / Automotive, Reel; Linear Technology Part Number: LTC6244; Manufacturer: Linear Technology; PartNumber: LTC6244HMS8#TR; Channels (#): 2; GBW (MHz) Typical: 50; Is (mA) Typical: 6.25; SR (V/us) Typical: 35; Vos (mV) Typical: 0.04; Vs Max (V): 6; Vs Min (V): 2.8; DatasheetVersion: Rev. B; PackageVersion: Rev G; PackageReference: LT-MS8-8; PackageDescription: 8-Lead Plastic Small Outline, Body 3.9 x 4.9 mm, Pitch 1.27 mm; Packing: Reel; Type: VFB; Mounting Technology: Surface Mount; ComponentLink1Description: Manufacturer URL; ComponentLink1URL: http://www.linear.com/; ComponentLink2Description: Datasheet; ComponentLink2URL: http://cds.linear.com/docs/en/datasheet/6244fb.pdf; ComponentLink3Description: Package Specification; ComponentLink3URL: http://cds.linear.com/docs/en/packaging/05081610_G_SO8.pdf
footprint LT-MS8-8_N (SOP, 8-Leads, Body 3x3mm, Pitch 0.65mm, IPC Medium Density)
footprint LT-MS8-8_L (SOP, 8-Leads, Body 3x3mm, Pitch 0.65mm, IPC High Density)
footprint LT-MS8-8_M (SOP, 8-Leads, Body 3x3mm, Pitch 0.65mm, IPC Low Density)
pins on every part: 4 V- (power) "Positive Supply Voltage of Control Circuitry. This pin is not internally connected to other supply voltage pins and must be externally connected to supply voltage bus with proper bypassing for best performance, see Power (See Datasheet)", 8 V+  (power) "Positive Supply Voltage of Blue Channel Amplifi er. This pin is not internally connected to other supply voltage pins and must be externally connected to the supply voltage bus with proper bypassing for best performance, see (See Datasheet)"
part A pins: 1 OUT A (hiz), 2 IN- A (in), 3 IN+ A (in)
part B pins: 5 IN+ B (in), 6 IN- B (in), 7 OUT B (hiz)

## LTC6244HMS8#TRPBF
designator U?
Dual Channel, Low Noise, CMOS Operational Amplifier, RRO, 50 MHz Typical GBW, 35 V/us Typical SR, 2.8 to 6 V, 8-Pin SOP (MS8-8), High Temperature / Automotive, Pb-Free, Reel; Linear Technology Part Number: LTC6244; Manufacturer: Linear Technology; PartNumber: LTC6244HMS8#TRPBF; Channels (#): 2; GBW (MHz) Typical: 50; Is (mA) Typical: 6.25; SR (V/us) Typical: 35; Vos (mV) Typical: 0.04; Vs Max (V): 6; Vs Min (V): 2.8; DatasheetVersion: Rev. B; PackageVersion: Rev G; PackageReference: LT-MS8-8; PackageDescription: 8-Lead Plastic Small Outline, Body 3.9 x 4.9 mm, Pitch 1.27 mm; Supplier 1: Digi-Key; Supplier Part Number 1: LTC6244HMS8#TRPBF-ND; Packing: Reel; RoHS: Pb-Free; Type: VFB; Mounting Technology: Surface Mount; ComponentLink1Description: Manufacturer URL; ComponentLink1URL: http://www.linear.com/; ComponentLink2Description: Datasheet; ComponentLink2URL: http://cds.linear.com/docs/en/datasheet/6244fb.pdf; ComponentLink3Description: Package Specification; ComponentLink3URL: http://cds.linear.com/docs/en/packaging/05081610_G_SO8.pdf
footprint LT-MS8-8_N (SOP, 8-Leads, Body 3x3mm, Pitch 0.65mm, IPC Medium Density)
footprint LT-MS8-8_L (SOP, 8-Leads, Body 3x3mm, Pitch 0.65mm, IPC High Density)
footprint LT-MS8-8_M (SOP, 8-Leads, Body 3x3mm, Pitch 0.65mm, IPC Low Density)
pins on every part: 4 V- (power) "Positive Supply Voltage of Control Circuitry. This pin is not internally connected to other supply voltage pins and must be externally connected to supply voltage bus with proper bypassing for best performance, see Power (See Datasheet)", 8 V+  (power) "Positive Supply Voltage of Blue Channel Amplifi er. This pin is not internally connected to other supply voltage pins and must be externally connected to the supply voltage bus with proper bypassing for best performance, see (See Datasheet)"
part A pins: 1 OUT A (hiz), 2 IN- A (in), 3 IN+ A (in)
part B pins: 5 IN+ B (in), 6 IN- B (in), 7 OUT B (hiz)

## LTC6244HVCMS8
designator U?
Dual Channel, Low Noise, CMOS Operational Amplifier, RRO, 50 MHz Typical GBW, 35 V/us Typical SR, 2.8 to 12 V, 8-Pin SOP (MS8-8), Commercial; Linear Technology Part Number: LTC6244HV; Manufacturer: Linear Technology; PartNumber: LTC6244HVCMS8; Channels (#): 2; GBW (MHz) Typical: 50; Is (mA) Typical: 6.25; SR (V/us) Typical: 35; Vos (mV) Typical: 0.04; Vs Max (V): 12; Vs Min (V): 2.8; DatasheetVersion: Rev. B; PackageVersion: Rev G; PackageReference: LT-MS8-8; PackageDescription: 8-Lead Plastic Small Outline, Body 3.9 x 4.9 mm, Pitch 1.27 mm; Type: VFB; Mounting Technology: Surface Mount; ComponentLink1Description: Manufacturer URL; ComponentLink1URL: http://www.linear.com/; ComponentLink2Description: Datasheet; ComponentLink2URL: http://cds.linear.com/docs/en/datasheet/6244fb.pdf; ComponentLink3Description: Package Specification; ComponentLink3URL: http://cds.linear.com/docs/en/packaging/05081610_G_SO8.pdf
footprint LT-MS8-8_N (SOP, 8-Leads, Body 3x3mm, Pitch 0.65mm, IPC Medium Density)
footprint LT-MS8-8_L (SOP, 8-Leads, Body 3x3mm, Pitch 0.65mm, IPC High Density)
footprint LT-MS8-8_M (SOP, 8-Leads, Body 3x3mm, Pitch 0.65mm, IPC Low Density)
pins on every part: 4 V- (power) "Positive Supply Voltage of Control Circuitry. This pin is not internally connected to other supply voltage pins and must be externally connected to supply voltage bus with proper bypassing for best performance, see Power (See Datasheet)", 8 V+  (power) "Positive Supply Voltage of Blue Channel Amplifi er. This pin is not internally connected to other supply voltage pins and must be externally connected to the supply voltage bus with proper bypassing for best performance, see (See Datasheet)"
part A pins: 1 OUT A (hiz), 2 IN- A (in), 3 IN+ A (in)
part B pins: 5 IN+ B (in), 6 IN- B (in), 7 OUT B (hiz)

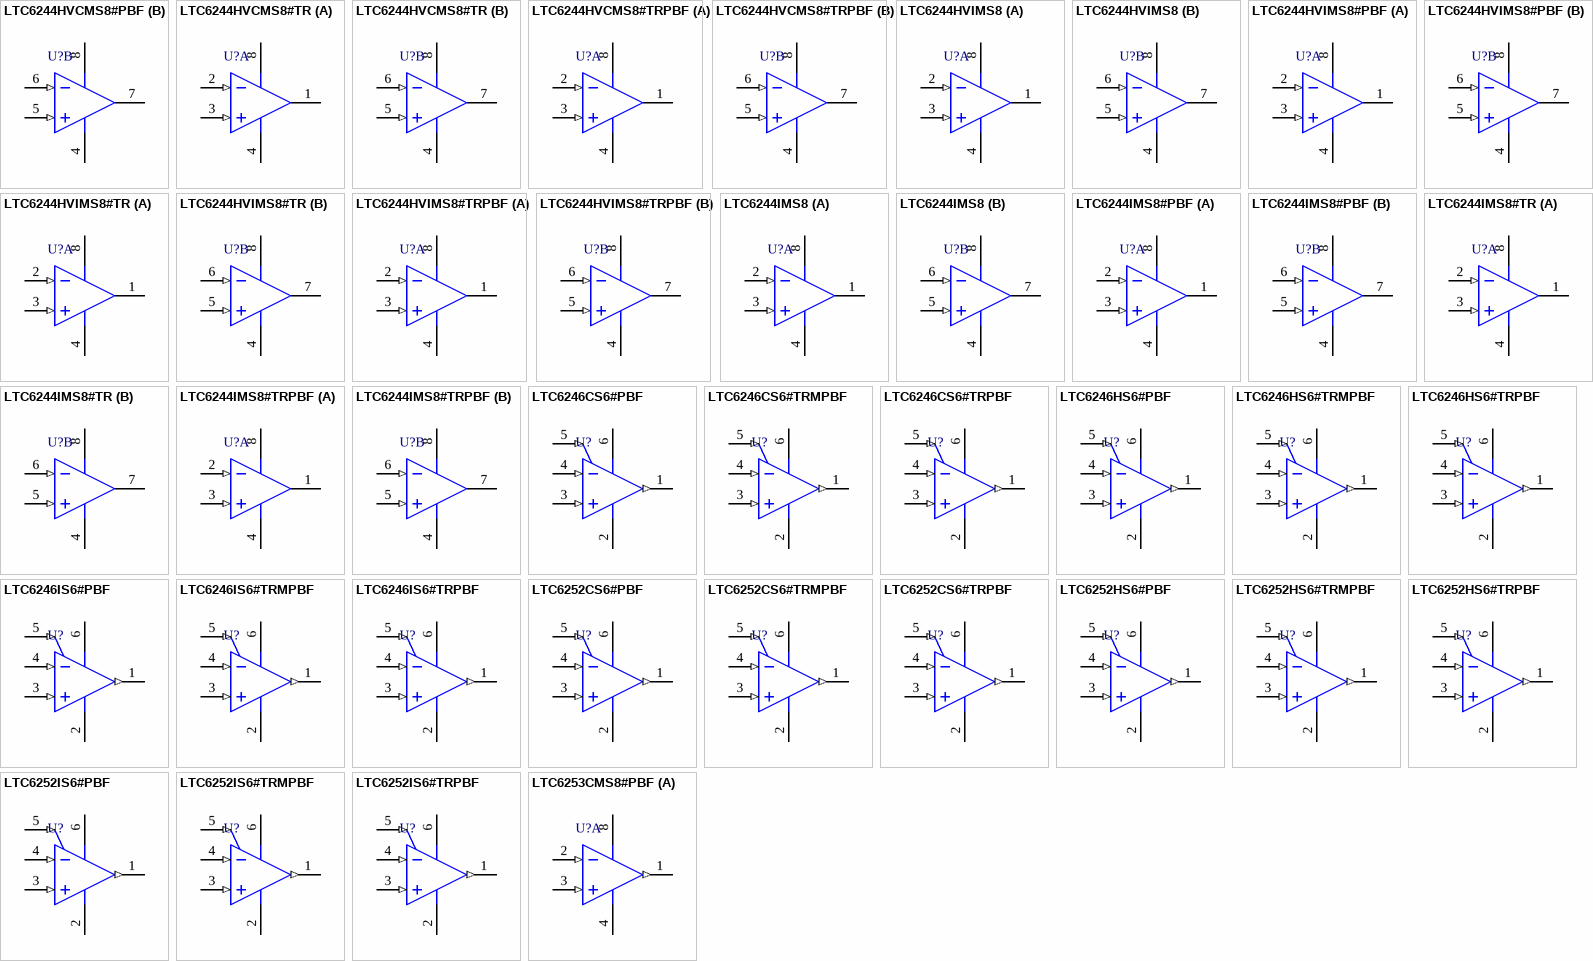
[diagram p67: symbols LTC6244HVCMS8#PBF to LTC6253CMS8#PBF]

## LTC6244HVCMS8#PBF
designator U?
Dual Channel, Low Noise, CMOS Operational Amplifier, RRO, 50 MHz Typical GBW, 35 V/us Typical SR, 2.8 to 12 V, 8-Pin SOP (MS8-8), Commercial, Pb-Free; Linear Technology Part Number: LTC6244HV; Manufacturer: Linear Technology; PartNumber: LTC6244HVCMS8#PBF; Channels (#): 2; GBW (MHz) Typical: 50; Is (mA) Typical: 6.25; SR (V/us) Typical: 35; Vos (mV) Typical: 0.04; Vs Max (V): 12; Vs Min (V): 2.8; DatasheetVersion: Rev. B; PackageVersion: Rev G; PackageReference: LT-MS8-8; PackageDescription: 8-Lead Plastic Small Outline, Body 3.9 x 4.9 mm, Pitch 1.27 mm; Supplier 1: Digi-Key; Supplier Part Number 1: LTC6244HVCMS8#PBF-ND; Supplier 2: Farnell; Supplier Part Number 2: 2294751; Supplier 3: Newark; Supplier Part Number 3: 57M0082; RoHS: Pb-Free; Type: VFB; Mounting Technology: Surface Mount; ComponentLink1Description: Manufacturer URL; ComponentLink1URL: http://www.linear.com/; ComponentLink2Description: Datasheet; ComponentLink2URL: http://cds.linear.com/docs/en/datasheet/6244fb.pdf; ComponentLink3Description: Package Specification; ComponentLink3URL: http://cds.linear.com/docs/en/packaging/05081610_G_SO8.pdf
footprint LT-MS8-8_N (SOP, 8-Leads, Body 3x3mm, Pitch 0.65mm, IPC Medium Density)
footprint LT-MS8-8_L (SOP, 8-Leads, Body 3x3mm, Pitch 0.65mm, IPC High Density)
footprint LT-MS8-8_M (SOP, 8-Leads, Body 3x3mm, Pitch 0.65mm, IPC Low Density)
pins on every part: 4 V- (power) "Positive Supply Voltage of Control Circuitry. This pin is not internally connected to other supply voltage pins and must be externally connected to supply voltage bus with proper bypassing for best performance, see Power (See Datasheet)", 8 V+  (power) "Positive Supply Voltage of Blue Channel Amplifi er. This pin is not internally connected to other supply voltage pins and must be externally connected to the supply voltage bus with proper bypassing for best performance, see (See Datasheet)"
part A pins: 1 OUT A (hiz), 2 IN- A (in), 3 IN+ A (in)
part B pins: 5 IN+ B (in), 6 IN- B (in), 7 OUT B (hiz)

## LTC6244HVCMS8#TR
designator U?
Dual Channel, Low Noise, CMOS Operational Amplifier, RRO, 50 MHz Typical GBW, 35 V/us Typical SR, 2.8 to 12 V, 8-Pin SOP (MS8-8), Commercial, Reel; Linear Technology Part Number: LTC6244HV; Manufacturer: Linear Technology; PartNumber: LTC6244HVCMS8#TR; Channels (#): 2; GBW (MHz) Typical: 50; Is (mA) Typical: 6.25; SR (V/us) Typical: 35; Vos (mV) Typical: 0.04; Vs Max (V): 12; Vs Min (V): 2.8; DatasheetVersion: Rev. B; PackageVersion: Rev G; PackageReference: LT-MS8-8; PackageDescription: 8-Lead Plastic Small Outline, Body 3.9 x 4.9 mm, Pitch 1.27 mm; Packing: Reel; Type: VFB; Mounting Technology: Surface Mount; ComponentLink1Description: Manufacturer URL; ComponentLink1URL: http://www.linear.com/; ComponentLink2Description: Datasheet; ComponentLink2URL: http://cds.linear.com/docs/en/datasheet/6244fb.pdf; ComponentLink3Description: Package Specification; ComponentLink3URL: http://cds.linear.com/docs/en/packaging/05081610_G_SO8.pdf
footprint LT-MS8-8_N (SOP, 8-Leads, Body 3x3mm, Pitch 0.65mm, IPC Medium Density)
footprint LT-MS8-8_L (SOP, 8-Leads, Body 3x3mm, Pitch 0.65mm, IPC High Density)
footprint LT-MS8-8_M (SOP, 8-Leads, Body 3x3mm, Pitch 0.65mm, IPC Low Density)
pins on every part: 4 V- (power) "Positive Supply Voltage of Control Circuitry. This pin is not internally connected to other supply voltage pins and must be externally connected to supply voltage bus with proper bypassing for best performance, see Power (See Datasheet)", 8 V+  (power) "Positive Supply Voltage of Blue Channel Amplifi er. This pin is not internally connected to other supply voltage pins and must be externally connected to the supply voltage bus with proper bypassing for best performance, see (See Datasheet)"
part A pins: 1 OUT A (hiz), 2 IN- A (in), 3 IN+ A (in)
part B pins: 5 IN+ B (in), 6 IN- B (in), 7 OUT B (hiz)

## LTC6244HVCMS8#TRPBF
designator U?
Dual Channel, Low Noise, CMOS Operational Amplifier, RRO, 50 MHz Typical GBW, 35 V/us Typical SR, 2.8 to 12 V, 8-Pin SOP (MS8-8), Commercial, Pb-Free, Reel; Linear Technology Part Number: LTC6244HV; Manufacturer: Linear Technology; PartNumber: LTC6244HVCMS8#TRPBF; Channels (#): 2; GBW (MHz) Typical: 50; Is (mA) Typical: 6.25; SR (V/us) Typical: 35; Vos (mV) Typical: 0.04; Vs Max (V): 12; Vs Min (V): 2.8; DatasheetVersion: Rev. B; PackageVersion: Rev G; PackageReference: LT-MS8-8; PackageDescription: 8-Lead Plastic Small Outline, Body 3.9 x 4.9 mm, Pitch 1.27 mm; Supplier 1: Digi-Key; Supplier Part Number 1: LTC6244HVCMS8#TRPBF-ND; Packing: Reel; RoHS: Pb-Free; Type: VFB; Mounting Technology: Surface Mount; ComponentLink1Description: Manufacturer URL; ComponentLink1URL: http://www.linear.com/; ComponentLink2Description: Datasheet; ComponentLink2URL: http://cds.linear.com/docs/en/datasheet/6244fb.pdf; ComponentLink3Description: Package Specification; ComponentLink3URL: http://cds.linear.com/docs/en/packaging/05081610_G_SO8.pdf
footprint LT-MS8-8_N (SOP, 8-Leads, Body 3x3mm, Pitch 0.65mm, IPC Medium Density)
footprint LT-MS8-8_L (SOP, 8-Leads, Body 3x3mm, Pitch 0.65mm, IPC High Density)
footprint LT-MS8-8_M (SOP, 8-Leads, Body 3x3mm, Pitch 0.65mm, IPC Low Density)
pins on every part: 4 V- (power) "Positive Supply Voltage of Control Circuitry. This pin is not internally connected to other supply voltage pins and must be externally connected to supply voltage bus with proper bypassing for best performance, see Power (See Datasheet)", 8 V+  (power) "Positive Supply Voltage of Blue Channel Amplifi er. This pin is not internally connected to other supply voltage pins and must be externally connected to the supply voltage bus with proper bypassing for best performance, see (See Datasheet)"
part A pins: 1 OUT A (hiz), 2 IN- A (in), 3 IN+ A (in)
part B pins: 5 IN+ B (in), 6 IN- B (in), 7 OUT B (hiz)